# Altium schematic symbol library SCH - MCU - STM32 - ST MICROELECTRONICS STM32G0B0KETX LQFP32.SchLib: 1 symbol
Pins are listed as number, name and electrical type; pins without a type are passive.

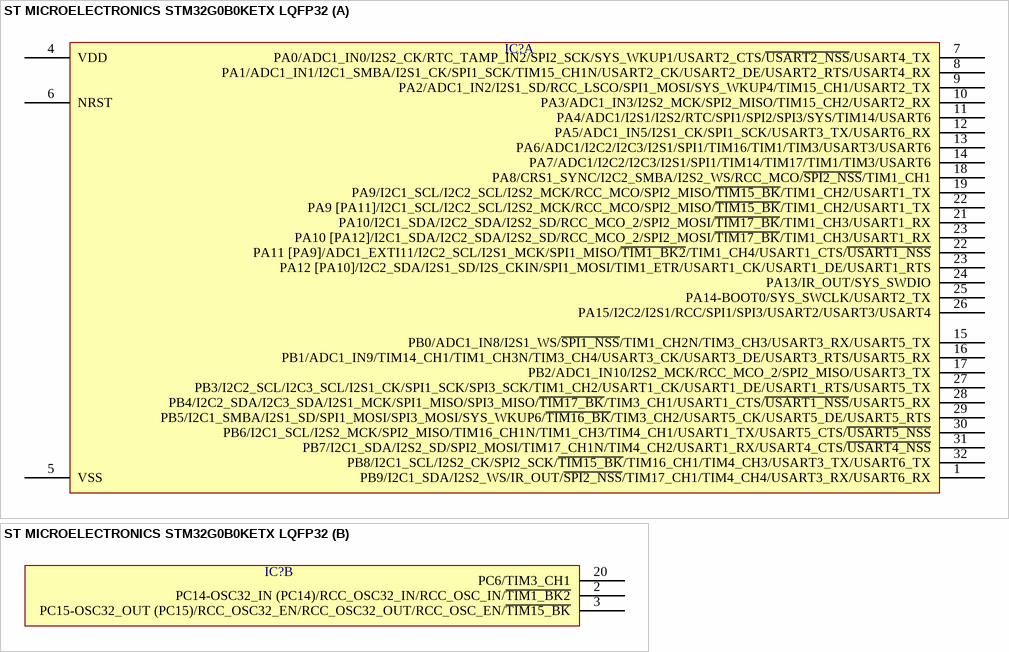
[diagram p0: symbol ST MICROELECTRONICS STM32G0B0KETX LQFP32]

## ST MICROELECTRONICS STM32G0B0KETX LQFP32
designator IC?  (value not drawn)
part A pins: 1 PB9/I2C1_SDA/I2S2_WS/IR_OUT/~{SPI2_NSS}/TIM17_CH1/TIM4_CH4/USART3_RX/USART6_RX, 4 VDD, 5 VSS, 6 NRST, 7 PA0/ADC1_IN0/I2S2_CK/RTC_TAMP_IN2/SPI2_SCK/SYS_WKUP1/USART2_CTS/~{USART2_NSS}/USART4_TX, 8 PA1/ADC1_IN1/I2C1_SMBA/I2S1_CK/SPI1_SCK/TIM15_CH1N/USART2_CK/USART2_DE/USART2_RTS/USART4_RX, 9 PA2/ADC1_IN2/I2S1_SD/RCC_LSCO/SPI1_MOSI/SYS_WKUP4/TIM15_CH1/USART2_TX, 10 PA3/ADC1_IN3/I2S2_MCK/SPI2_MISO/TIM15_CH2/USART2_RX, 11 PA4/ADC1/I2S1/I2S2/RTC/SPI1/SPI2/SPI3/SYS/TIM14/USART6, 12 PA5/ADC1_IN5/I2S1_CK/SPI1_SCK/USART3_TX/USART6_RX, 13 PA6/ADC1/I2C2/I2C3/I2S1/SPI1/TIM16/TIM1/TIM3/USART3/USART6, 14 PA7/ADC1/I2C2/I2C3/I2S1/SPI1/TIM14/TIM17/TIM1/TIM3/USART6, 15 PB0/ADC1_IN8/I2S1_WS/~{SPI1_NSS}/TIM1_CH2N/TIM3_CH3/USART3_RX/USART5_TX, 16 PB1/ADC1_IN9/TIM14_CH1/TIM1_CH3N/TIM3_CH4/USART3_CK/USART3_DE/USART3_RTS/USART5_RX, 17 PB2/ADC1_IN10/I2S2_MCK/RCC_MCO_2/SPI2_MISO/USART3_TX, 18 PA8/CRS1_SYNC/I2C2_SMBA/I2S2_WS/RCC_MCO/~{SPI2_NSS}/TIM1_CH1, 19 PA9/I2C1_SCL/I2C2_SCL/I2S2_MCK/RCC_MCO/SPI2_MISO/~{TIM15_BK}/TIM1_CH2/USART1_TX, 21 PA10/I2C1_SDA/I2C2_SDA/I2S2_SD/RCC_MCO_2/SPI2_MOSI/~{TIM17_BK}/TIM1_CH3/USART1_RX, 22 PA9 [PA11]/I2C1_SCL/I2C2_SCL/I2S2_MCK/RCC_MCO/SPI2_MISO/~{TIM15_BK}/TIM1_CH2/USART1_TX, 22 PA11 [PA9]/ADC1_EXTI11/I2C2_SCL/I2S1_MCK/SPI1_MISO/~{TIM1_BK2}/TIM1_CH4/USART1_CTS/~{USART1_NSS}, 23 PA10 [PA12]/I2C1_SDA/I2C2_SDA/I2S2_SD/RCC_MCO_2/SPI2_MOSI/~{TIM17_BK}/TIM1_CH3/USART1_RX, 23 PA12 [PA10]/I2C2_SDA/I2S1_SD/I2S_CKIN/SPI1_MOSI/TIM1_ETR/USART1_CK/USART1_DE/USART1_RTS, 24 PA13/IR_OUT/SYS_SWDIO, 25 PA14-BOOT0/SYS_SWCLK/USART2_TX, 26 PA15/I2C2/I2S1/RCC/SPI1/SPI3/USART2/USART3/USART4, 27 PB3/I2C2_SCL/I2C3_SCL/I2S1_CK/SPI1_SCK/SPI3_SCK/TIM1_CH2/USART1_CK/USART1_DE/USART1_RTS/USART5_TX, 28 PB4/I2C2_SDA/I2C3_SDA/I2S1_MCK/SPI1_MISO/SPI3_MISO/~{TIM17_BK}/TIM3_CH1/USART1_CTS/~{USART1_NSS}/USART5_RX, 29 PB5/I2C1_SMBA/I2S1_SD/SPI1_MOSI/SPI3_MOSI/SYS_WKUP6/~{TIM16_BK}/TIM3_CH2/USART5_CK/USART5_DE/USART5_RTS, 30 PB6/I2C1_SCL/I2S2_MCK/SPI2_MISO/TIM16_CH1N/TIM1_CH3/TIM4_CH1/USART1_TX/USART5_CTS/~{USART5_NSS}, 31 PB7/I2C1_SDA/I2S2_SD/SPI2_MOSI/TIM17_CH1N/TIM4_CH2/USART1_RX/USART4_CTS/~{USART4_NSS}, 32 PB8/I2C1_SCL/I2S2_CK/SPI2_SCK/~{TIM15_BK}/TIM16_CH1/TIM4_CH3/USART3_TX/USART6_TX
part B pins: 2 PC14-OSC32_IN (PC14)/RCC_OSC32_IN/RCC_OSC_IN/~{TIM1_BK2}, 3 PC15-OSC32_OUT (PC15)/RCC_OSC32_EN/RCC_OSC32_OUT/RCC_OSC_EN/~{TIM15_BK}, 20 PC6/TIM3_CH1